# EAGLE library part SRV05-4 (library cpu)
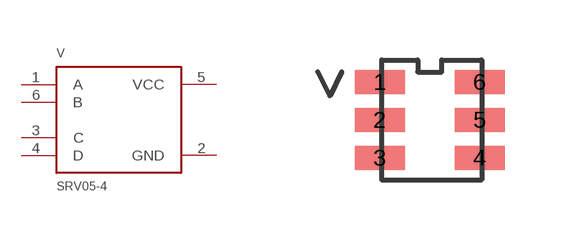
[diagram p13: symbol with the pads of OMAT_IC_2_SOT23-6; footprint OMAT_IC_2_SOT23-6]

Designator prefix V

## SRV05-4  [OMAT_IC_2_SOT23-6]
1  A
2  GND
3  C
4  D
5  VCC
6  B

## Footprint OMAT_IC_2_SOT23-6 (pad centres in mm)
smd 1.25 x 0.6: 1 -1.25,0.95; 2 -1.25,0; 3 -1.25,-0.95; 4 1.25,-0.95; 5 1.25,0; 6 1.25,0.95